# EAGLE library part BGA2869 (library BGA2869)
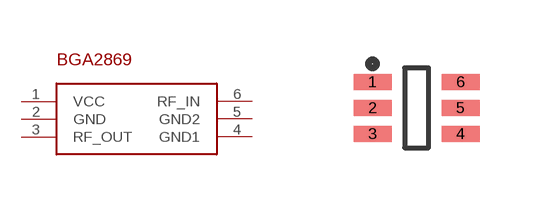
[diagram p0: symbol with the pads of SOP65P210X95-6N; footprint SOP65P210X95-6N]

Designator prefix -

## BGA2869  [SOP65P210X95-6N]
1  VCC
2  GND
3  RF_OUT
4  GND1
5  GND2
6  RF_IN

## Footprint SOP65P210X95-6N (pad centres in mm)
smd 0.95 x 0.4: 1 -1.1,0.65; 2 -1.1,0; 3 -1.1,-0.65; 4 1.1,-0.65; 5 1.1,0; 6 1.1,0.65